# EAGLE library part LPC2368FBD100K (library LPC2368FBD100K)
MCU 16-bit/32-bit ARM7TDMI-S RISC 512KB Flash 3.3V 100-Pin LQFP Tray Source: Datasheet <https://componentsearchengine.com/Datasheets/1/LPC2368FBD100K.pdf>
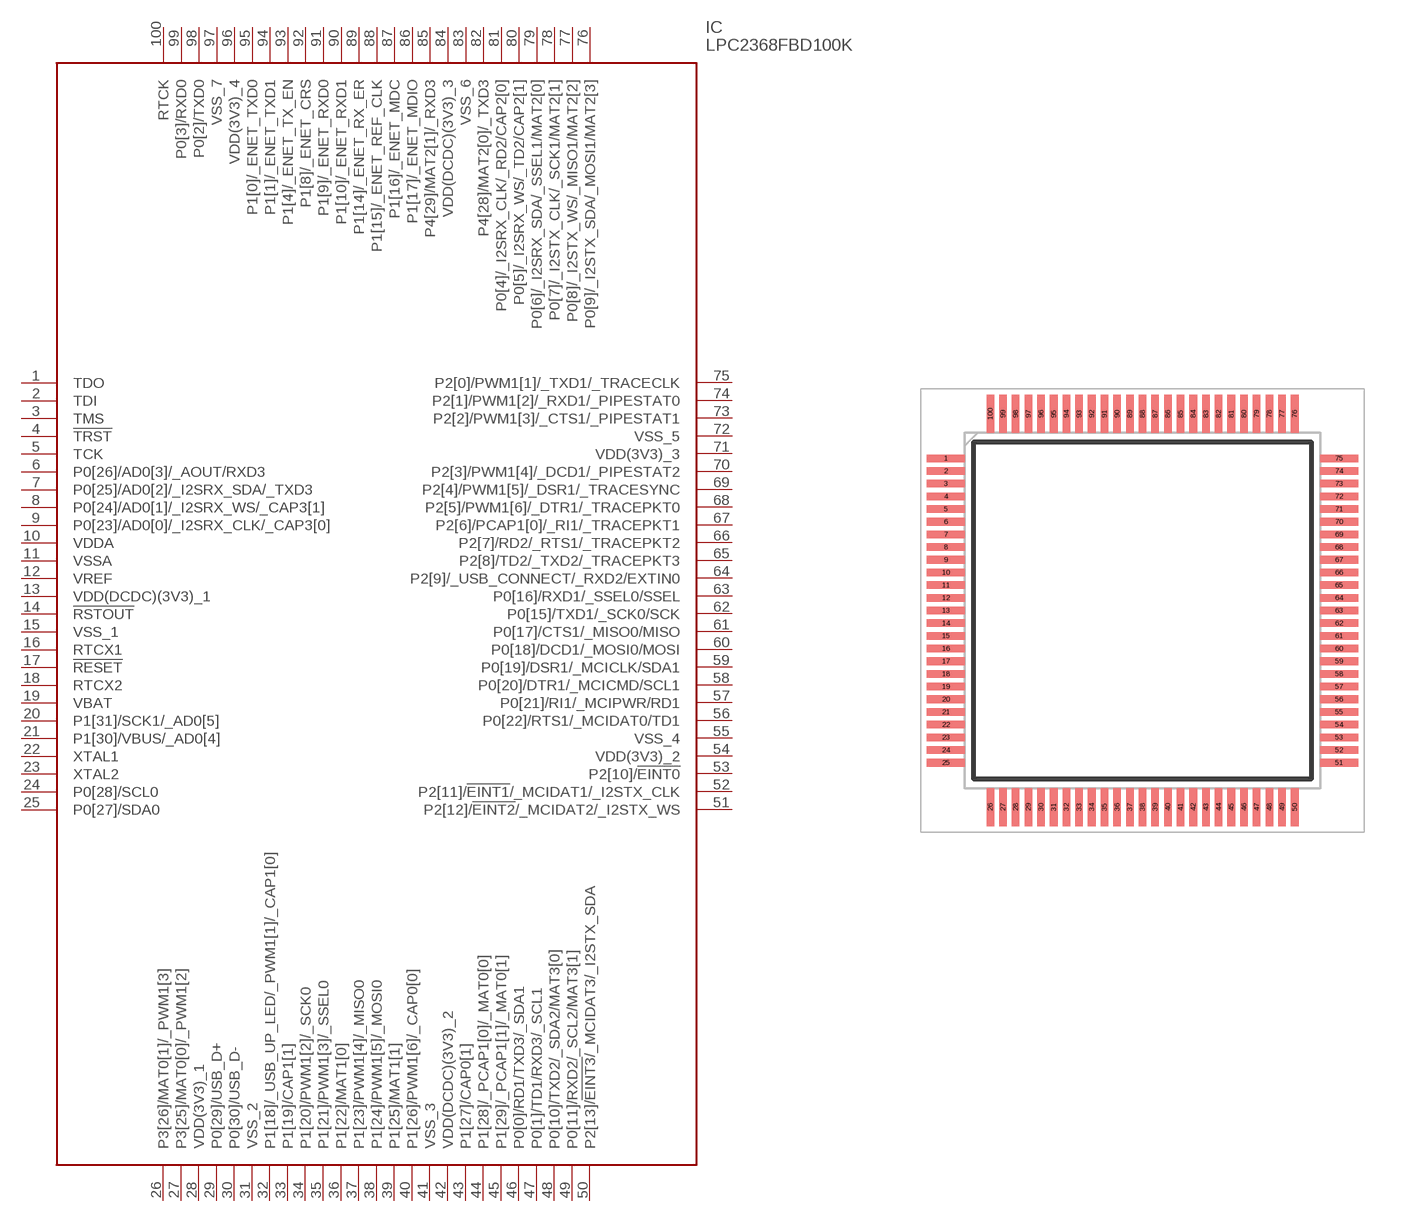
[diagram p0: symbol with the pads of QFP50P1600X1600X160-100N; footprint QFP50P1600X1600X160-100N]

Designator prefix IC

## LPC2368FBD100K (Description: MCU 16-bit/32-bit ARM7TDMI-S RISC 512KB Flash 3.3V 100-Pin LQFP Tray; Height: 1.6mm; Manufacturer_Name: NXP; Manufacturer_Part_Number: LPC2368FBD100K; Mouser_Part_Number: 771-LPC2368FBD100K; Mouser_Price-Stock: https://www.mouser.co.uk/ProductDetail/NXP-Semiconductors/LPC2368FBD100K?qs=rkhjVJ6%2F3EKcP2xVYgEpQA%3D%3D)  [QFP50P1600X1600X160-100N]
1  TDO
2  TDI
3  TMS
4  !TRST
5  TCK
6  P0[26]/AD0[3]/_AOUT/RXD3
7  P0[25]/AD0[2]/_I2SRX_SDA/_TXD3
8  P0[24]/AD0[1]/_I2SRX_WS/_CAP3[1]
9  P0[23]/AD0[0]/_I2SRX_CLK/_CAP3[0]
10  VDDA
11  VSSA
12  VREF
13  VDD(DCDC)(3V3)_1
14  !RSTOUT
15  VSS_1
16  RTCX1
17  !RESET
18  RTCX2
19  VBAT
20  P1[31]/SCK1/_AD0[5]
21  P1[30]/VBUS/_AD0[4]
22  XTAL1
23  XTAL2
24  P0[28]/SCL0
25  P0[27]/SDA0
26  P3[26]/MAT0[1]/_PWM1[3]
27  P3[25]/MAT0[0]/_PWM1[2]
28  VDD(3V3)_1
29  P0[29]/USB_D+
30  P0[30]/USB_D-
31  VSS_2
32  P1[18]/_USB_UP_LED/_PWM1[1]/_CAP1[0]
33  P1[19]/CAP1[1]
34  P1[20]/PWM1[2]/_SCK0
35  P1[21]/PWM1[3]/_SSEL0
36  P1[22]/MAT1[0]
37  P1[23]/PWM1[4]/_MISO0
38  P1[24]/PWM1[5]/_MOSI0
39  P1[25]/MAT1[1]
40  P1[26]/PWM1[6]/_CAP0[0]
41  VSS_3
42  VDD(DCDC)(3V3)_2
43  P1[27]/CAP0[1]
44  P1[28]/_PCAP1[0]/_MAT0[0]
45  P1[29]/_PCAP1[1]/_MAT0[1]
46  P0[0]/RD1/TXD3/_SDA1
47  P0[1]/TD1/RXD3/_SCL1
48  P0[10]/TXD2/_SDA2/MAT3[0]
49  P0[11]/RXD2/_SCL2/MAT3[1]
50  P2[13]/!EINT3!/_MCIDAT3/_I2STX_SDA
51  P2[12]/!EINT2!/_MCIDAT2/_I2STX_WS
52  P2[11]/!EINT1!/_MCIDAT1/_I2STX_CLK
53  P2[10]/!EINT0
54  VDD(3V3)_2
55  VSS_4
56  P0[22]/RTS1/_MCIDAT0/TD1
57  P0[21]/RI1/_MCIPWR/RD1
58  P0[20]/DTR1/_MCICMD/SCL1
59  P0[19]/DSR1/_MCICLK/SDA1
60  P0[18]/DCD1/_MOSI0/MOSI
61  P0[17]/CTS1/_MISO0/MISO
62  P0[15]/TXD1/_SCK0/SCK
63  P0[16]/RXD1/_SSEL0/SSEL
64  P2[9]/_USB_CONNECT/_RXD2/EXTIN0
65  P2[8]/TD2/_TXD2/_TRACEPKT3
66  P2[7]/RD2/_RTS1/_TRACEPKT2
67  P2[6]/PCAP1[0]/_RI1/_TRACEPKT1
68  P2[5]/PWM1[6]/_DTR1/_TRACEPKT0
69  P2[4]/PWM1[5]/_DSR1/_TRACESYNC
70  P2[3]/PWM1[4]/_DCD1/_PIPESTAT2
71  VDD(3V3)_3
72  VSS_5
73  P2[2]/PWM1[3]/_CTS1/_PIPESTAT1
74  P2[1]/PWM1[2]/_RXD1/_PIPESTAT0
75  P2[0]/PWM1[1]/_TXD1/_TRACECLK
76  P0[9]/_I2STX_SDA/_MOSI1/MAT2[3]
77  P0[8]/_I2STX_WS/_MISO1/MAT2[2]
78  P0[7]/_I2STX_CLK/_SCK1/MAT2[1]
79  P0[6]/_I2SRX_SDA/_SSEL1/MAT2[0]
80  P0[5]/_I2SRX_WS/_TD2/CAP2[1]
81  P0[4]/_I2SRX_CLK/_RD2/CAP2[0]
82  P4[28]/MAT2[0]/_TXD3
83  VSS_6
84  VDD(DCDC)(3V3)_3
85  P4[29]/MAT2[1]/_RXD3
86  P1[17]/_ENET_MDIO
87  P1[16]/_ENET_MDC
88  P1[15]/_ENET_REF_CLK
89  P1[14]/_ENET_RX_ER
90  P1[10]/_ENET_RXD1
91  P1[9]/_ENET_RXD0
92  P1[8]/_ENET_CRS
93  P1[4]/_ENET_TX_EN
94  P1[1]/_ENET_TXD1
95  P1[0]/_ENET_TXD0
96  VDD(3V3)_4
97  VSS_7
98  P0[2]/TXD0
99  P0[3]/RXD0
100  RTCK

## Footprint QFP50P1600X1600X160-100N (pad centres in mm)
LQFP100
smd 1.5 x 0.3: 1 -7.75,6; 2 -7.75,5.5; 3 -7.75,5; 4 -7.75,4.5; 5 -7.75,4; 6 -7.75,3.5; 7 -7.75,3; 8 -7.75,2.5; 9 -7.75,2; 10 -7.75,1.5; 11 -7.75,1; 12 -7.75,0.5; 13 -7.75,0; 14 -7.75,-0.5; 15 -7.75,-1; 16 -7.75,-1.5; 17 -7.75,-2; 18 -7.75,-2.5; 19 -7.75,-3; 20 -7.75,-3.5; 21 -7.75,-4; 22 -7.75,-4.5; 23 -7.75,-5; 24 -7.75,-5.5; 25 -7.75,-6; 51 7.75,-6; 52 7.75,-5.5; 53 7.75,-5; 54 7.75,-4.5; 55 7.75,-4; 56 7.75,-3.5; 57 7.75,-3; 58 7.75,-2.5; 59 7.75,-2; 60 7.75,-1.5; 61 7.75,-1; 62 7.75,-0.5; 63 7.75,0; 64 7.75,0.5; 65 7.75,1; 66 7.75,1.5; 67 7.75,2; 68 7.75,2.5; 69 7.75,3; 70 7.75,3.5; 71 7.75,4; 72 7.75,4.5; 73 7.75,5; 74 7.75,5.5; 75 7.75,6
smd 0.3 x 1.5: 26 -6,-7.75; 27 -5.5,-7.75; 28 -5,-7.75; 29 -4.5,-7.75; 30 -4,-7.75; 31 -3.5,-7.75; 32 -3,-7.75; 33 -2.5,-7.75; 34 -2,-7.75; 35 -1.5,-7.75; 36 -1,-7.75; 37 -0.5,-7.75; 38 0,-7.75; 39 0.5,-7.75; 40 1,-7.75; 41 1.5,-7.75; 42 2,-7.75; 43 2.5,-7.75; 44 3,-7.75; 45 3.5,-7.75; 46 4,-7.75; 47 4.5,-7.75; 48 5,-7.75; 49 5.5,-7.75; 50 6,-7.75; 76 6,7.75; 77 5.5,7.75; 78 5,7.75; 79 4.5,7.75; 80 4,7.75; 81 3.5,7.75; 82 3,7.75; 83 2.5,7.75; 84 2,7.75; 85 1.5,7.75; 86 1,7.75; 87 0.5,7.75; 88 0,7.75; 89 -0.5,7.75; 90 -1,7.75; 91 -1.5,7.75; 92 -2,7.75; 93 -2.5,7.75; 94 -3,7.75; 95 -3.5,7.75; 96 -4,7.75; 97 -4.5,7.75; 98 -5,7.75; 99 -5.5,7.75; 100 -6,7.75